# EAGLE library part AP65450 (library pimoroni-ics)
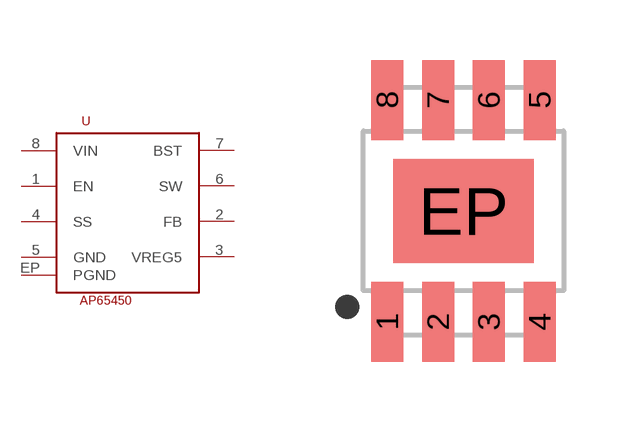
[diagram p67: symbol with the pads of SO_POWERPAD_8; footprint SO_POWERPAD_8]

Designator prefix -

## AP65450  [SO_POWERPAD_8]
1  EN
2  FB
3  VREG5
4  SS
5  GND
6  SW
7  BST
8  VIN
EP  PGND

## Footprint SO_POWERPAD_8 (pad centres in mm)
smd 0.8 x 2: 1 -1.905,-2.775; 2 -0.635,-2.775; 3 0.635,-2.775; 4 1.905,-2.775; 5 1.905,2.775; 6 0.635,2.775; 7 -0.635,2.775; 8 -1.905,2.775
smd 3.5 x 2.6: EP 0,0